# Altium footprint library Project_Parts.PcbLib: 15 footprints
Each footprint in its own frame and in the unit in brackets; x right, y up, seen from the top. Pads: shape width x height; smd on the part's side, far side on the other; paste and mask are expansions set on the pad; w line width, h text height; cw(c..) or ccw(c..) is an arc to the next point about the centre after c.
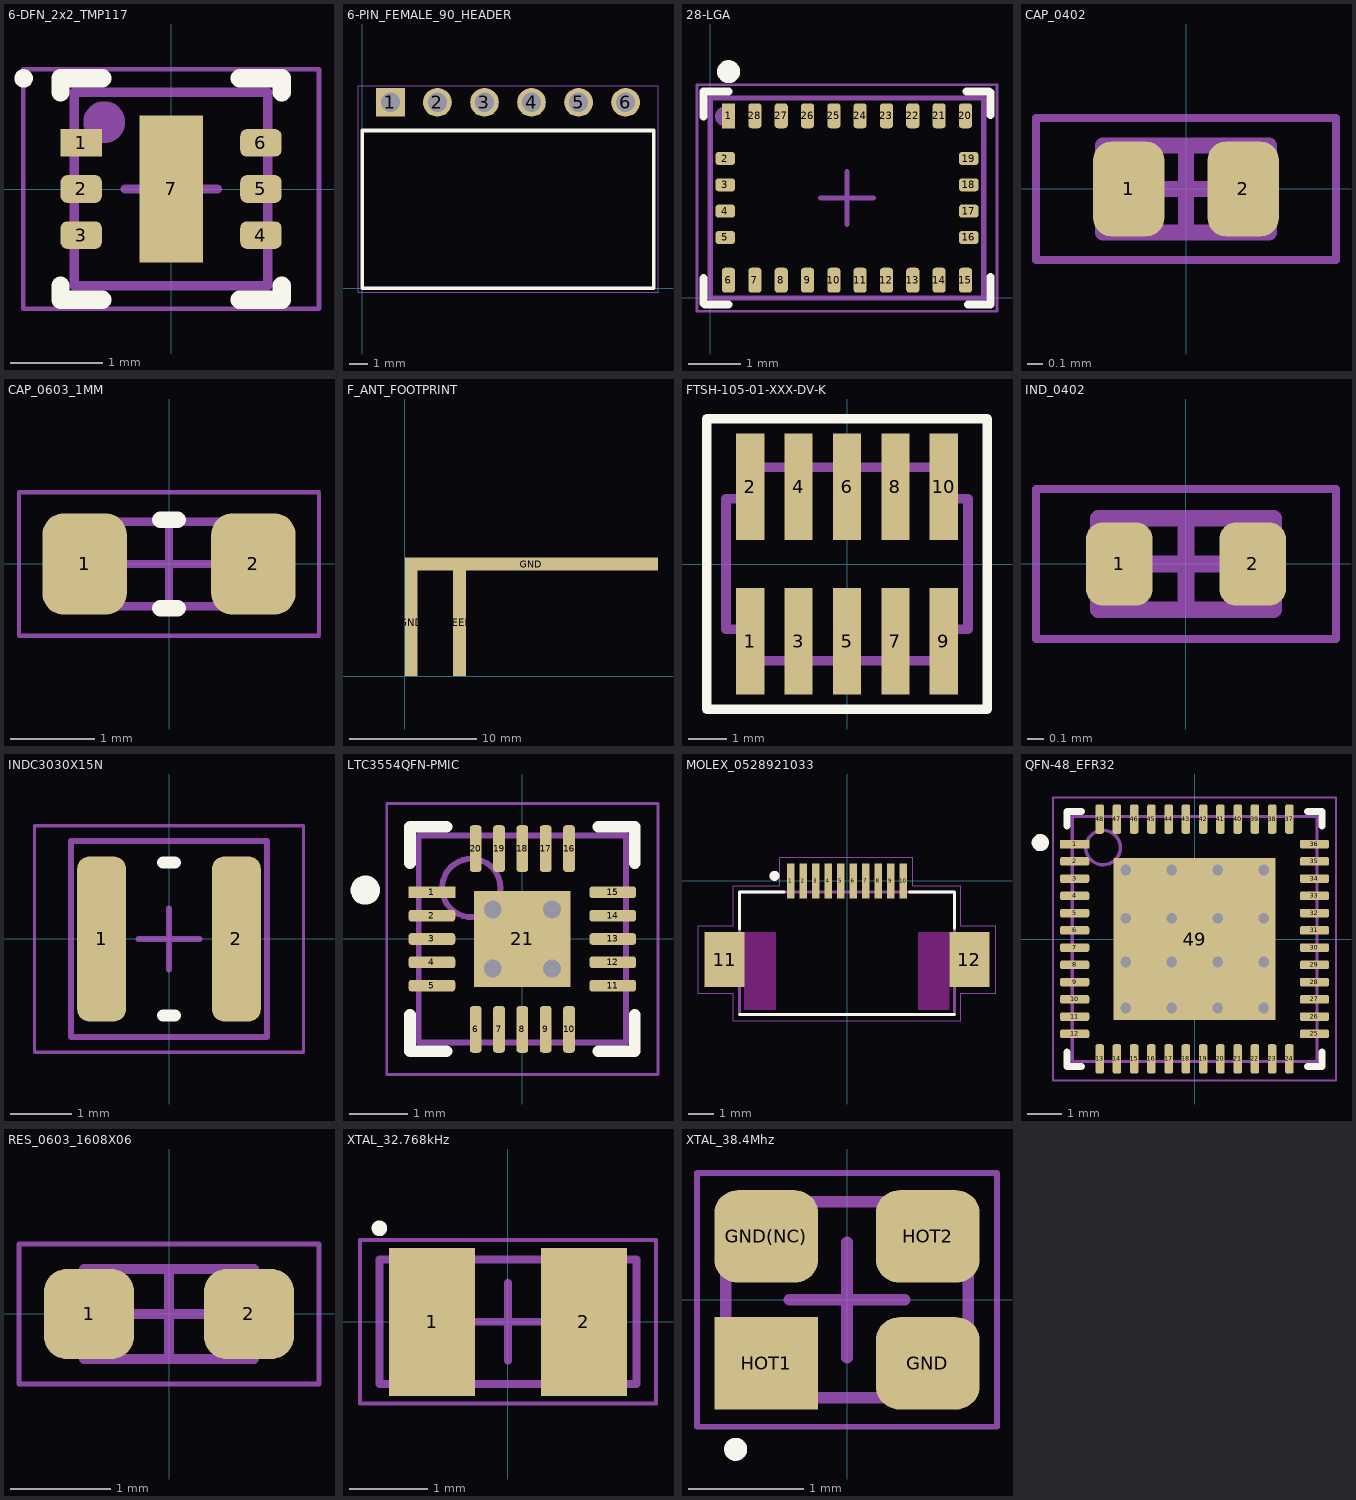
[diagram p0: the footprints below, top view; thin cyan lines are the x and y axes]

## 6-DFN_2x2_TMP117 [mm] "DFN, 6-Leads, Body 2.00x2.00, Pitch 0.65mm, IPC Medium Density"
height 0.8
pads (7):
  rect 0.45x0.3 smd mask+0.064: 1(-0.975,0.5)
  rrect50% 0.45x0.3 smd mask+0.064: 2(-0.975,0) 3(-0.975,-0.5) 4(0.975,-0.5) 5(0.975,0) 6(0.975,0.5)
  rect 0.69x1.6 smd paste-1 mask+0.064: 7(0,0)
Top Overlay:
  circle w0.1: c-1.6,1.2 r0.05
  lines w0.2: -1.2,-1.05 -1.2,-1.2 -0.745,-1.2 ; -1.2,1.05 -1.2,1.2 -0.745,1.2 ; 0.745,-1.2 1.2,-1.2 1.2,-1.05 ; 0.745,1.2 1.2,1.2 1.2,1.05
Mechanical 13:
  circle w0.254: c-0.725,0.725 r0.1
  lines w0.1: -1.05,-1.05 -1.05,1.05 1.05,1.05 1.05,-1.05 -1.05,-1.05
  text ".Designator" at -0.88,-0.263 h0.65
Mechanical 15:
  lines w0.05: -1.605,-1.3 -1.605,1.3 1.605,1.3 1.605,-1.3 -1.605,-1.3
  lines w0.1: -0.5,0 0.5,0 ; 0,-0.5 0,0.5
3D body "6-DFN_2x2.step": height 0.8, standoff 0, extent -1.1,-1.05 1.1,1.05

## 6-PIN_FEMALE_90_HEADER [mm] ".025 SQ Post Terminal Strip Assembly, 1x6 Pins, Vertical, 2.54mm Pitch, Female"
pads (6):
  rect 1.55x1.55 hole 1.04 mask+0.064: 1(1.525,10.034)
  round 1.55 hole 1.04 mask+0.064: 2(4.065,10.034) 3(6.605,10.034) 4(9.145,10.034) 5(11.685,10.034) 6(14.225,10.034)
Top Overlay:
  lines w0.2: 0,0 0,8.51 15.75,8.51 15.75,0 0,0
Mechanical 13:
  lines w0.1: 0,0 0,8.51 15.75,8.51 15.75,0 0,0
  text ".Designator" at 0.737,0.863 h1.52
Mechanical 15:
  lines w0.05: -0.225,-0.225 -0.225,10.934 15.975,10.934 15.975,-0.225 -0.225,-0.225
3D body "SSW-106-02-X-S-RA.step": height 2.41, standoff -2.54, extent 0.001,0.001 15.749,10.237

## 28-LGA [mm] "LGA, 28-Leads, Body 5.20x3.80mmx1.18mm, Pitch 0.50mm"
height 1.18
pads (28):
  rect 0.25x0.475 smd mask+0.064: 1(0.35,3.463)
  rrect50% 0.375x0.25 smd mask+0.064: 2(0.288,2.65) 3(0.288,2.15) 4(0.288,1.65) 5(0.288,1.15) 16(4.912,1.15) 17(4.912,1.65) 18(4.912,2.15) 19(4.912,2.65)
  rrect50% 0.25x0.475 smd mask+0.064: 6(0.35,0.337) 7(0.85,0.337) 8(1.35,0.337) 9(1.85,0.337) 10(2.35,0.337) 11(2.85,0.337) 12(3.35,0.337) 13(3.85,0.337) 14(4.35,0.337) 15(4.85,0.337) 20(4.85,3.463) 21(4.35,3.463) 22(3.85,3.463) 23(3.35,3.463) 24(2.85,3.463) 25(2.35,3.463) 26(1.85,3.463) 27(1.35,3.463) 28(0.85,3.463)
Top Overlay:
  circle w0.254: c0.35,4.3 r0.092
  lines w0.152: -0.125,-0.1 -0.125,0.375 ; -0.125,3.45 -0.125,3.925 0.35,3.925 ; -0.1,-0.125 0.35,-0.125 ; 4.875,3.925 5.3,3.925 ; 4.9,-0.125 5.325,-0.125 5.325,0.4 ; 5.325,3.475 5.325,3.9
Mechanical 13:
  circle w0.254: c0.275,3.45 r0.056
  lines w0.1: 0,0 5.2,0 5.2,3.8 0,3.8 0,0
  text ".Designator" at 0.212,0.162 h0.9
Mechanical 15:
  lines w0.05: -0.25,-0.25 5.45,-0.25 5.45,4.05 -0.25,4.05 -0.25,-0.25
  lines w0.1: 2.1,1.9 3.1,1.9 ; 2.6,1.4 2.6,2.4
3D body "BNO055--3DModel-STEP-56544.STEP": height 1.18, standoff 0, extent 0,0 5.2,3.8

## CAP_0402 [mm] "0402 Capacitor"
height 0.55
pads (2):
  rrect50% 0.45x0.6 smd mask+0.064: 1(-0.363,0) 2(0.362,0)
Mechanical 13:
  lines w0.1: -0.525,-0.275 0.525,-0.275 0.525,0.275 -0.525,0.275 -0.525,-0.275
  text ".Designator" at -0.42,-0.287 h0.4
Mechanical 15:
  lines w0.05: -0.95,-0.45 0.95,-0.45 0.95,0.45 -0.95,0.45 -0.95,-0.45
  lines w0.1: -0.275,0 0.275,0 ; 0,-0.275 0,0.275
3D body "CAP_0402.step": height 0.55, standoff 0, extent -0.525,-0.275 0.525,0.275

## CAP_0603_1MM [mm] "Chip Capacitor, 2-Leads, Body 1.60x0.80mm, IPC Medium Density"
height 1
pads (2):
  rrect50% 1x1.2 smd mask+0.064: 1(-1,0) 2(1,0)
Top Overlay:
  lines w0.2: -0.1,-0.525 0.1,-0.525 ; -0.1,0.525 0.1,0.525
Mechanical 13:
  lines w0.1: -0.9,-0.5 0.9,-0.5 0.9,0.5 -0.9,0.5 -0.9,-0.5
  text ".Designator" at -0.723,-0.254 h0.5
Mechanical 15:
  lines w0.05: -1.778,-0.85 1.778,-0.85 1.778,0.85 -1.778,0.85 -1.778,-0.85
  lines w0.1: -0.5,0 0.5,0 ; 0,-0.5 0,0.5
3D body "CAP_0603_1608X10.step": height 1, standoff 0, extent -0.9,-0.5 0.9,0.5

## F_ANT_FOOTPRINT [mil]
pads (3):
  rect 40x329 smd paste-100 mask+0: FEED(169,164.5) GND(20,164.5)
  rect 782x39 smd paste-100 mask+0: GND(391,346.5)

## FTSH-105-01-XXX-DV-K [mil]
pads (10):
  rect 29x110 smd mask+2: 1(-100,-80) 2(-100,80) 3(-50,-80) 4(-50,80) 5(0,-80) 6(0,80) 7(50,-80) 8(50,80) 9(100,-80) 10(100,80)
Top Overlay:
  lines w10: -145,-150 -145,150 145,150 145,-150 -145,-150
Mechanical 1:
  lines w10: -125,-67.5 -125,67.5 -100,67.5 -100,100 100,100 100,67.5 125,67.5 125,-67.5 100,-67.5 100,-100 -100,-100 -100,-67.5 -125,-67.5
  text "J1" at -17.14,-17.5 h25
3D body "FTSH-105-01-L-DV-K.stp": height 225, standoff -16, extent -125,-115 125,115

## IND_0402 [mm]
height 0.55
pads (2):
  rrect50% 0.4x0.5 smd mask+0.064: 1(-0.4,0) 2(0.4,0)
Mechanical 13:
  lines w0.1: -0.525,-0.275 -0.525,0.275 0.525,0.275 0.525,-0.275 -0.525,-0.275
  text ".Designator" at -0.42,-0.287 h0.4
Mechanical 15:
  lines w0.05: -0.9,-0.45 -0.9,0.45 0.9,0.45 0.9,-0.45 -0.9,-0.45
  lines w0.1: -0.275,0 0.275,0 ; 0,-0.275 0,0.275
3D body: height 0.55, standoff 0, extent -0.325,-0.275 0.325,0.275
3D body: height 0.55, standoff 0, extent -0.525,-0.275 -0.325,0.275
3D body: height 0.55, standoff 0, extent 0.325,-0.275 0.525,0.275

## INDC3030X15N [mm] "Chip Inductor, 2-Leads, Body 3.00x3.00mm, IPC Medium Density"
height 1.5
pads (2):
  rrect50% 0.8x2.7 smd mask+0.064: 1(-1.1,0) 2(1.1,0)
Top Overlay:
  lines w0.2: -0.1,-1.25 0.1,-1.25 ; -0.1,1.25 0.1,1.25
Mechanical 13:
  lines w0.1: -1.6,-1.6 -1.6,1.6 1.6,1.6 1.6,-1.6 -1.6,-1.6
  text ".Designator" at -1.488,-1.288 h0.6
Mechanical 15:
  lines w0.05: -2.2,-1.85 -2.2,1.85 2.2,1.85 2.2,-1.85 -2.2,-1.85
  lines w0.1: -0.5,0 0.5,0 ; 0,-0.5 0,0.5
3D body "INDC3030X15N.step": height 1.5, standoff 0, extent -1.6,-1.6 1.6,1.6

## LTC3554QFN-PMIC [mm] "QFN, 20-Leads, Body 3.50x3.50mm, Pitch 0.40mm, Thermal Pad 1.65x1.65mm, IPC Medium Density"
height 0.8
pads (21):
  rect 0.8x0.2 smd mask+0.064: 1(-1.55,0.8)
  rrect50% 0.8x0.2 smd mask+0.064: 2(-1.55,0.4) 3(-1.55,0) 4(-1.55,-0.4) 5(-1.55,-0.8) 11(1.55,-0.8) 12(1.55,-0.4) 13(1.55,0) 14(1.55,0.4) 15(1.55,0.8)
  rrect50% 0.2x0.8 smd mask+0.064: 6(-0.8,-1.55) 7(-0.4,-1.55) 8(0,-1.55) 9(0.4,-1.55) 10(0.8,-1.55) 16(0.8,1.55) 17(0.4,1.55) 18(0,1.55) 19(-0.4,1.55) 20(-0.8,1.55)
  rect 1.65x1.65 smd mask+0.064: 21(0,0)
via -0.508,-0.508 diameter 0.61 hole 0.305
via 0.508,-0.508 diameter 0.61 hole 0.305
via -0.508,0.508 diameter 0.61 hole 0.305
via 0.508,0.508 diameter 0.61 hole 0.305
Top Overlay:
  circle w0.25: c-2.692,0.838 r0.125
  lines w0.2: -1.925,-1.3 -1.925,-1.925 -1.3,-1.925 ; -1.925,1.3 -1.925,1.925 -1.3,1.925 ; 1.3,-1.925 1.925,-1.925 1.925,-1.3 ; 1.3,1.925 1.925,1.925 1.925,1.3
Mechanical 13:
  circle w0.1: c-0.875,0.875 r0.5
  lines w0.1: -1.775,-1.775 1.775,-1.775 1.775,1.775 -1.775,1.775 -1.775,-1.775
  text ".Designator" at -1.18,-0.663 h0.65
Mechanical 15:
  lines w0.05: -2.325,-2.325 2.325,-2.325 2.325,2.325 -2.325,2.325 -2.325,-2.325
  lines w0.1: -0.5,0 0.5,0 ; 0,-0.5 0,0.5
3D body: height 0.8, standoff 0.05, extent -1.775,-1.775 1.775,1.775

## MOLEX_0528921033 [mm]
pads (12):
  rect 0.3x1.4 smd mask+0.064: 1(-2.25,0) 2(-1.75,0) 3(-1.25,0) 4(-0.75,0) 5(-0.25,0) 6(0.25,0) 7(0.75,0) 8(1.25,0) 9(1.75,0) 10(2.25,0)
  rect 1.6x2.2 smd mask+0.064: 11(-4.9,-3.15) 12(4.9,-3.15)
Top Overlay:
  circle w0.2: c-2.9,0.2 r0.1
  lines w0.127: -4.3,-5.35 4.3,-5.35 ; -4.3,-1.92 -4.3,-0.45 -2.53,-0.45 ; 2.5,-0.45 4.3,-0.45 4.3,-1.9
Keep-Out Layer:
  region: -2.85,-5.155 -4.104,-5.155 -4.104,-2.05 -2.85,-2.05
  region: 4.1,-5.163 2.857,-5.163 2.857,-2.05 4.1,-2.05
Mechanical 13:
  lines w0.127: -4.3,-5.35 4.3,-5.35 4.3,-0.45 -4.3,-0.45 -4.3,-5.35
  text ".Designator" at -3.071,-4.063 h1.52
Mechanical 15:
  lines w0.05: -2.51,0.95 -2.69,0.95 -2.69,-0.2 -4.55,-0.2 -4.55,-1.8 -5.95,-1.8 -5.95,-4.5 -4.55,-4.5 -4.55,-5.6 4.55,-5.6 4.55,-4.5 5.95,-4.5 5.95,-1.8 4.55,-1.8 4.55,-0.2 2.63,-0.2 2.63,0.95 -2.5,0.95
3D body "528921033.stp": height 0.04, standoff -2, extent -5.2,-5.144 5.2,0.356

## QFN-48_EFR32 [mm] "QFN, 48-Leads, Body 7.00x7.00mm, Pitch 0.50mm, Thermal Pad 5.30x5.30mm, IPC Medium Density"
height 0.9
pads (49):
  rect 0.85x0.25 smd mask+0.07: 1(-3.475,2.75)
  rrect50% 0.85x0.25 smd mask+0.07: 2(-3.475,2.25) 3(-3.475,1.75) 4(-3.475,1.25) 5(-3.475,0.75) 6(-3.475,0.25) 7(-3.475,-0.25) 8(-3.475,-0.75) 9(-3.475,-1.25) 10(-3.475,-1.75) 11(-3.475,-2.25) 12(-3.475,-2.75) 25(3.475,-2.75) 26(3.475,-2.25) 27(3.475,-1.75) 28(3.475,-1.25) 29(3.475,-0.75) 30(3.475,-0.25) 31(3.475,0.25) 32(3.475,0.75) 33(3.475,1.25) 34(3.475,1.75) 35(3.475,2.25) 36(3.475,2.75)
  rrect50% 0.25x0.85 smd mask+0.07: 13(-2.75,-3.475) 14(-2.25,-3.475) 15(-1.75,-3.475) 16(-1.25,-3.475) 17(-0.75,-3.475) 18(-0.25,-3.475) 19(0.25,-3.475) 20(0.75,-3.475) 21(1.25,-3.475) 22(1.75,-3.475) 23(2.25,-3.475) 24(2.75,-3.475) 37(2.75,3.475) 38(2.25,3.475) 39(1.75,3.475) 40(1.25,3.475) 41(0.75,3.475) 42(0.25,3.475) 43(-0.25,3.475) 44(-0.75,3.475) 45(-1.25,3.475) 46(-1.75,3.475) 47(-2.25,3.475) 48(-2.75,3.475)
  rect 4.7x4.7 smd mask+0.064: 49(0,0)
via 2,-2 diameter 0.61 hole 0.305
via -2,-2 diameter 0.61 hole 0.305
via 2,2 diameter 0.61 hole 0.305
via -2,2 diameter 0.61 hole 0.305
via 2,-0.667 diameter 0.61 hole 0.305
via 2,0.6 diameter 0.61 hole 0.305
via -0.667,-2 diameter 0.61 hole 0.305
via -0.667,-0.667 diameter 0.61 hole 0.305
via -0.667,0.6 diameter 0.61 hole 0.305
via 0.667,2 diameter 0.61 hole 0.305
via -2,-0.667 diameter 0.61 hole 0.305
via 0.667,-0.667 diameter 0.61 hole 0.305
via -2,0.6 diameter 0.61 hole 0.305
via 0.667,0.6 diameter 0.61 hole 0.305
via -0.667,2 diameter 0.61 hole 0.305
via 0.667,-2 diameter 0.61 hole 0.305
Top Overlay:
  circle w0.25: c-4.47,2.794 r0.125
  lines w0.2: -3.7,-3.275 -3.7,-3.7 -3.275,-3.7 ; -3.7,3.275 -3.7,3.7 -3.275,3.7 ; 3.275,-3.7 3.7,-3.7 3.7,-3.275 ; 3.275,3.7 3.7,3.7 3.7,3.275
Mechanical 13:
  circle w0.1: c-2.65,2.65 r0.5
  lines w0.1: -3.55,-3.55 3.55,-3.55 3.55,3.55 -3.55,3.55 -3.55,-3.55
Mechanical 15:
  lines w0.05: -4.1,-4.1 4.1,-4.1 4.1,4.1 -4.1,4.1 -4.1,-4.1
  lines w0.1: -0.5,0 0.5,0 ; 0,-0.5 0,0.5
3D body "QFN-48_EFR32.step": height 0.9, standoff 0, extent -3.551,-3.551 3.551,3.551

## RES_0603_1608X06 [mm] "Chip Resistor, 2-Leads, Body 1.60x0.80mm, IPC Medium Density"
height 0.55
pads (2):
  rrect50% 0.9x0.9 smd mask+0.064: 1(-0.8,0) 2(0.8,0)
Mechanical 13:
  lines w0.1: -0.85,-0.45 -0.85,0.45 0.85,0.45 0.85,-0.45 -0.85,-0.45
  text ".Designator" at -0.635,-0.254 h0.4
Mechanical 15:
  lines w0.05: -1.5,-0.7 -1.5,0.7 1.5,0.7 1.5,-0.7 -1.5,-0.7
  lines w0.1: -0.45,0 0.45,0 ; 0,-0.45 0,0.45
3D body "0603_1608X05N.step": height 0.45, standoff 0, extent -0.775,-0.425 0.775,0.425

## XTAL_32.768kHz [mm] "DFN, 2-Leads, Body 1.50x3.20mm, Pitch 2.40mm, IPC Medium Density"
height 0.9
pads (2):
  rect 1.1x1.9 smd mask+0.064: 1(-0.975,0) 2(0.975,0)
Top Overlay:
  circle w0.1: c-1.65,1.2 r0.05
Mechanical 13:
  lines w0.1: -1.65,-0.8 -1.65,0.8 1.65,0.8 1.65,-0.8 -1.65,-0.8
  text ".Designator" at -1.538,-0.488 h0.6
Mechanical 15:
  lines w0.05: -1.9,-1.05 -1.9,1.05 1.9,1.05 1.9,-1.05 -1.9,-1.05
  lines w0.1: -0.5,0 0.5,0 ; 0,-0.5 0,0.5
3D body "XTAL_32.768kHz.step": height 0.9, standoff 0, extent -1.65,-0.8 1.65,0.8

## XTAL_38.4Mhz [mm] "DFN, 4-Leads, Body 1.60x2.00mm, Pitch 1.23mm, IPC Medium Density"
height 0.45
pads (4):
  rrect50% 0.9x0.8 smd mask+0.064: GND(0.7,-0.55) GND(NC)(-0.7,0.55) HOT2(0.7,0.55)
  rect 0.9x0.8 smd mask+0.064: HOT1(-0.7,-0.55)
Top Overlay:
  circle w0.1: c-0.965,-1.295 r0.05
Mechanical 13:
  lines w0.1: -1.05,-0.85 1.05,-0.85 1.05,0.85 -1.05,0.85 -1.05,-0.85
  text ".Designator" at -0.938,-0.538 h0.6
Mechanical 15:
  lines w0.05: -1.3,-1.1 1.3,-1.1 1.3,1.1 -1.3,1.1 -1.3,-1.1
  lines w0.1: -0.5,0 0.5,0 ; 0,-0.5 0,0.5
3D body "XTAL_38.4Mhz.step": height 0.45, standoff 0, extent -1.05,-0.85 1.135,0.85